# EAGLE library part 53261-7010_10P_H (library MCU_Print_V2)
Pin header, PicoBlade 6-pin SMD, 53261-0671, Molex, single row 90°, Distrelec : 143-54-312
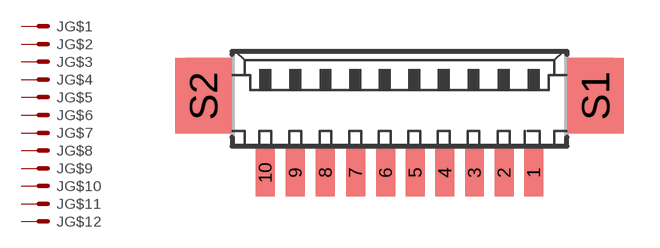
[diagram p12: symbol with the pads of 53261-10; footprint 53261-10]

Designator prefix J; gates G$1=M G$2=M G$3=M G$4=M G$5=M G$6=M G$7=M G$8=M G$9=M G$10=M G$11=M G$12=M

## 53261-7010_10P_H (MANUFACOR: MOLEX; MOUSER: 538-53261-7010)  [53261-10]
1  G$1:S  pas
2  G$2:S  pas
3  G$3:S  pas
4  G$4:S  pas
5  G$5:S  pas
6  G$6:S  pas
7  G$7:S  pas
8  G$8:S  pas
9  G$9:S  pas
10  G$10:S  pas
S1  G$11:S  pas
S2  G$12:S  pas

## Footprint 53261-10 (pad centres in mm)
Pico-Blade 53261-0671 vertical (l x p x h / 12,75 x 3,75 x 3,45mm)
smd 0.8 x 2: 1 5.665,-2.5; 2 4.415,-2.5; 3 3.165,-2.5; 4 1.915,-2.5; 5 0.665,-2.5; 6 -0.585,-2.5; 7 -1.855,-2.5; 8 -3.125,-2.5; 9 -4.395,-2.5; 10 -5.665,-2.5
smd 2.4 x 3.2: S1 8.275,0.75; S2 -8.275,0.75